# Altium schematic symbol library RGB_LED.SchLib: 1 symbol
Pins are listed as number, name and electrical type; pins without a type are passive.

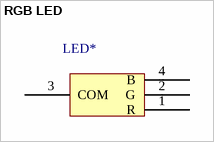
[diagram p0: symbol RGB LED]

## RGB LED
designator LED*  (value not drawn)
footprint PCBComponent_1
pins: 1 R, 2 G, 3 COM, 4 B